# Altium schematic symbol library Attend 112J_TDAR.SchLib: 1 symbol
Pins are listed as number, name and electrical type; pins without a type are passive.

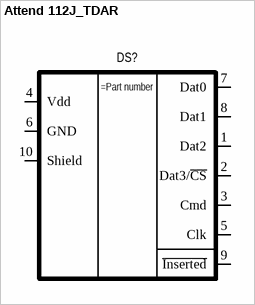
[diagram p0: symbol Attend 112J_TDAR]

## Attend 112J_TDAR
designator DS?
Micro SD Socket. Push-Push Type. Top Mount SMD 15x14mm
pins: 1 Dat2, 2 Dat3/~{CS}, 3 Cmd, 4 Vdd, 5 Clk, 6 GND, 7 Dat0, 8 Dat1, 9 ~{Inserted}, 10 Shield